# Altium footprint library PcbLib1.PcbLib: 18 footprints (part 2 of 2)
Each footprint in its own frame and in the unit in brackets; x right, y up, seen from the top. Pads: shape width x height; smd on the part's side, far side on the other; paste and mask are expansions set on the pad; w line width, h text height; cw(c..) or ccw(c..) is an arc to the next point about the centre after c.
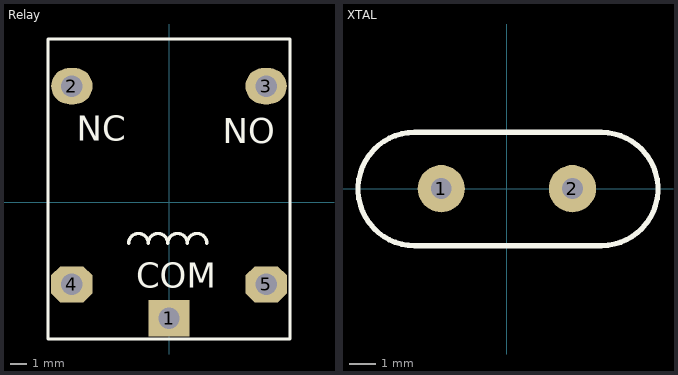
[diagram p1: the footprints below, top view; thin cyan lines are the x and y axes]

## Relay [mm] "k?"
height 15.7
pads (5):
  rect 2.5x2.2 hole 1.3: 1(0,-7.025)
  oval 2.5x2.2 hole 1.3: 2(-5.875,7.025) 3(5.875,7.025)
  oct 2.5x2.2 hole 1.3: 4(-5.875,-4.975) 5(5.875,-4.975)
Top Overlay:
  lines w0.2: -2.438,-2.48 cw(c-1.847,-2.48) -1.256,-2.48 cw(c-0.665,-2.48) -0.074,-2.48 cw(c0.517,-2.48) 1.108,-2.48 cw(c1.699,-2.48) 2.29,-2.48 ; -7.325,-8.275 7.325,-8.275 7.325,9.875 -7.325,9.875 -7.325,-8.275
  text "NC" at -5.588,3.734 h1.5
  text "NO" at 3.251,3.556 h1.5
  text "COM" at -1.981,-5.182 h1.5
3D body "relay2.STEP": height 15.7, standoff -1.8, extent -7.366,-8.715 7.634,9.985

## XTAL [mm] "Y?"
pads (2):
  round 1.8 hole 0.8: 1(-2.5,0) 2(2.5,0)
Top Overlay:
  lines w0.2: -3.512,-2.172 -0.462,-2.172 3.574,-2.172 ; -3.51,-2.175 cw(c-3.51,-0.013) -3.51,2.15 ; -3.487,2.146 -0.462,2.146 ; -0.716,2.146 3.574,2.146 ; 3.602,-2.172 ccw(c3.602,-0.013) 3.602,2.146
3D body "User Library-HC-49_LT_THT_16MHz.STEP": height 0.99, standoff -4.6, extent -5.682,-2.376 5.668,2.274